# Altium schematic symbol library MAX4544CSA.SchLib: 1 symbol
Pins are listed as number, name and electrical type; pins without a type are passive.

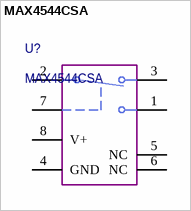
[diagram p0: symbol MAX4544CSA]

## MAX4544CSA
designator U?
pins: 1 NO, 2 COM, 3 NC, 4 GND, 5 NC, 6 NC, 7 IN, 8 V+